# Altium footprint library nail_detector.PcbLib: 77 footprints (part 1 of 5)
Each footprint in its own frame and in the unit in brackets; x right, y up, seen from the top. Pads: shape width x height; smd on the part's side, far side on the other; paste and mask are expansions set on the pad; w line width, h text height; cw(c..) or ccw(c..) is an arc to the next point about the centre after c.
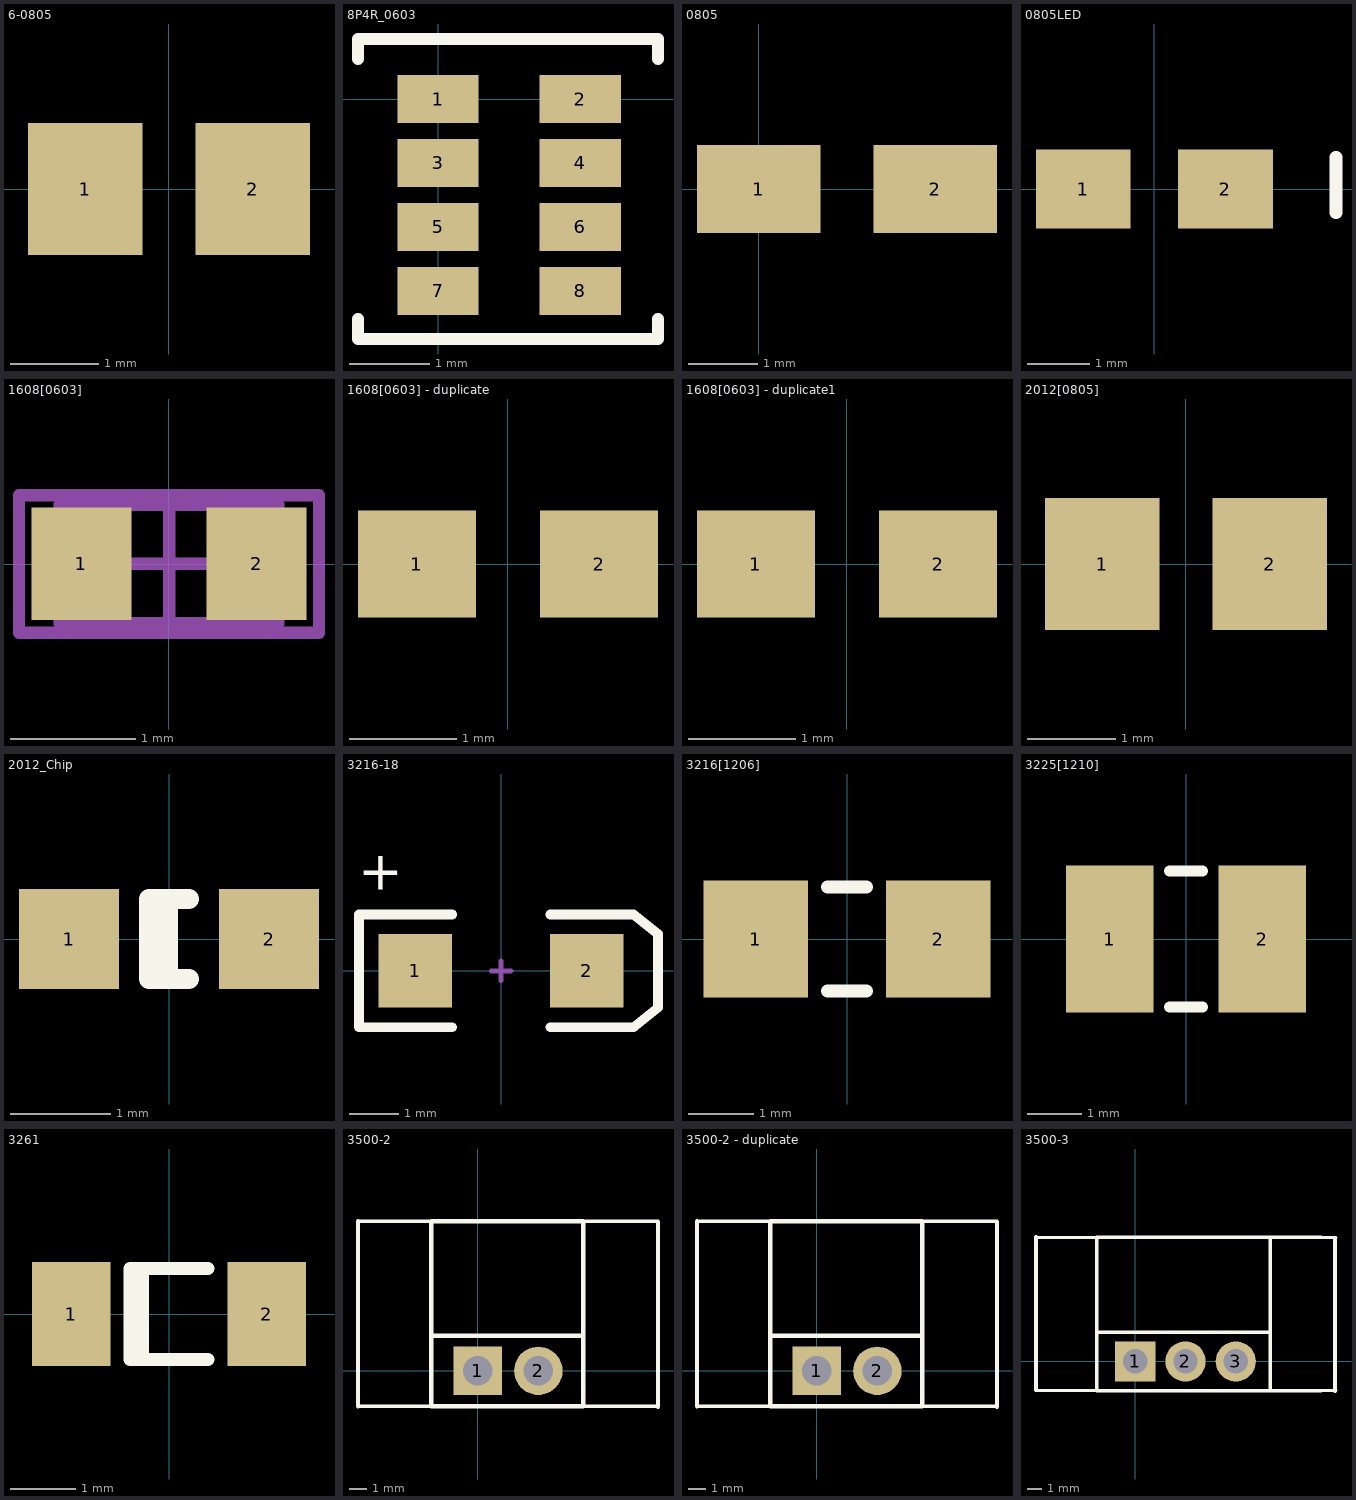
[diagram p0: the footprints below, top view; thin cyan lines are the x and y axes]

## 6-0805 [mm] "Chip Resistor; Body 2.0 x 1.3 mm (LxW typ)"
height 0.65
pads (2):
  rect 1.3x1.5 smd: 1(-0.95,0) 2(0.95,0)

## 8P4R_0603 [mm]
pads (8):
  rect 1.016x0.6 smd: 1(0,0) 2(1.778,0) 3(0,-0.8) 4(1.778,-0.8) 5(0,-1.6) 6(1.778,-1.6) 7(0,-2.4) 8(1.778,-2.4)
Top Overlay:
  lines w0.15: -1,-2.75 -1,-3 -0.75,-3 2.75,-3 2.75,-2.75 ; -1,0.5 -1,0.75 -0.75,0.75 2.75,0.75 2.75,0.5

## 0805 [mil]
height 62.99
pads (2):
  rect 70x50 smd: 1(0,0) 2(100,0)

## 0805LED [mil]
height 209.84
pads (2):
  rect 60x50 smd: 1(-45,0) 2(45,0)
Top Overlay:
  lines w8: 115,-15 115,20

## 1608[0603] [mm] "Chip Capacitor, Body 1.6x0.8mm, IPC High Density"
height 1.3
pads (2):
  rect 0.8x0.9 smd: 1(-0.7,0) 2(0.7,0)
Mechanical 13:
  lines w0.1: -0.875,-0.475 0.875,-0.475 0.875,0.475 -0.875,0.475 -0.875,-0.475
Mechanical 15:
  lines w0.1: -0.475,0 0.475,0 ; 0,-0.475 0,0.475 ; -1.2,-0.55 1.2,-0.55 1.2,0.55 -1.2,0.55 -1.2,-0.55
3D body: height 1.3, standoff 0, extent -0.875,-0.475 0.875,0.475

## 1608[0603] - duplicate [mm] "Chip Capacitor; Body 1.6 x 0.8 mm (LxW typ)"
height 1.35
pads (2):
  rect 1.1x1 smd: 1(-0.85,0) 2(0.85,0)
3D body: height 0.3, standoff 0, extent -0.825,-0.4 0.775,0.4

## 1608[0603] - duplicate1 [mm] "Chip Capacitor; Body 1.6 x 0.8 mm (LxW typ)"
height 1.35
pads (2):
  rect 1.1x1 smd: 1(-0.85,0) 2(0.85,0)

## 2012[0805] [mm] "Chip Resistor; Body 2.0 x 1.3 mm (LxW typ)"
height 2.54
pads (2):
  rect 1.3x1.5 smd: 1(-0.95,0) 2(0.95,0)

## 2012_Chip [mm] "2012 Chip; Chip Inductor; Body 2.0 x 1.2 mm (LxW typ)"
height 0.55
pads (2):
  rect 1x1 smd: 1(-1,0) 2(1,0)
Top Overlay:
  lines w0.2: -0.01,-0.4 -0.01,0.4 ; 0.2,-0.4 -0.2,-0.4 -0.2,0.4 0.2,0.4

## 3216-18 [mm]
height 1.8
pads (2):
  rect 1.5x1.5 smd: 1(-1.75,0) 2(1.75,0)
Top Overlay:
  lines w0.2: -1,-1.15 -2.9,-1.15 -2.9,1.15 -1,1.15 ; 1,-1.15 2.7,-1.15 3.2,-0.75 3.2,0.75 2.7,1.15 1,1.15
  text "+" at -2.921,1.651 h0.8
Mechanical 1:
  lines w0.1: -0.2,0 0.2,0 ; 0,-0.2 0,0.2

## 3216[1206] [mm] "Chip Resistor; Body 3.2 x 1.6 mm (LxW typ)"
height 2.54
pads (2):
  rect 1.6x1.8 smd: 1(-1.4,0) 2(1.4,0)
Top Overlay:
  lines w0.2: -0.3,-0.8 0.3,-0.8 ; -0.3,0.8 0.3,0.8
3D body: height 1.6, standoff 0, extent -1.574,-0.8 1.626,0.8

## 3225[1210] [mm] "Chip Resistor; Body 3.2 x 2.5 mm (LxW typ)"
height 0.6
pads (2):
  rect 1.6x2.7 smd: 1(-1.4,0) 2(1.4,0)
Top Overlay:
  lines w0.2: -0.3,-1.25 0.3,-1.25 ; -0.3,1.25 0.3,1.25

## 3261 [mm] "3216 Chip; Chip Inductor; Body 3.2 x 1.6 mm (LxW typ)"
height 0.55
pads (2):
  rect 1.2x1.6 smd: 1(-1.5,0) 2(1.5,0)
Top Overlay:
  lines w0.2: -0.41,-0.7 -0.41,0.7 ; 0.6,-0.7 -0.6,-0.7 -0.6,0.7 0.6,0.7

## 3500-2 [mil]
height 314.96
pads (2):
  rect 110x110 hole 66.93: 1(0,0)
  round 110 hole 66.93: 2(137.8,0)
Top Overlay:
  lines w7.87: -266.65,-80 -104,-80 ; -266.65,340 -105,340 ; 227,-80 407.45,-80 ; 230,340 407.45,340
  lines w10: -271.65,-80 -271.65,340 ; -105,-80 -105,340 240,340 ; -104,-80 240,-80 240,336 ; -100,80 240,80 ; 409.45,-82 409.45,338
3D body: height 314.96, standoff 0, extent -271.65,-80 409.45,341

## 3500-2 - duplicate [mil]
height 314.96
pads (2):
  rect 110x110 hole 66.93: 1(0,0)
  round 110 hole 66.93: 2(137.8,0)
Top Overlay:
  lines w7.87: -266.65,-80 -104,-80 ; -266.65,340 -105,340 ; 227,-80 407.45,-80 ; 230,340 407.45,340
  lines w10: -271.65,-80 -271.65,340 ; -105,-80 -105,340 240,340 ; -104,-80 240,-80 240,336 ; -100,80 240,80 ; 409.45,-82 409.45,338
3D body: height 314.96, standoff 0, extent -271.65,-80 409.45,341

## 3500-3 [mil]
height 314.96
pads (3):
  rect 110x110 hole 66.93: 1(0,0)
  round 110 hole 66.93: 2(137.8,0) 3(275.59,0)
Top Overlay:
  lines w7.87: -269.65,-80 -105,-80 ; -269.65,340 -105,340 ; 483,-80 550,-80 ; 510,340 550,340
  lines w10: -271.65,-78 -271.65,342 ; -100,80 370,80 ; 370,-80 370,340 ; 510,-80 -105,-80 -105,340 510,340 ; 547.24,-82 547.24,338
3D body: height 314.96, standoff 0, extent -271.65,-80 550,331